# Altium schematic symbol library OV7670.SchLib: 1 symbol
Pins are listed as number, name and electrical type; pins without a type are passive.

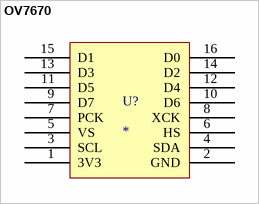
[diagram p0: symbol OV7670]

## OV7670
designator U?
footprint HDR2X8 (Connector; Header; 8x2 Position)
footprint HDR2X8H (Connector; Header; 8x2 Position; Right Angle)
pins: 1 3V3, 2 GND, 3 SCL, 4 SDA, 5 VS, 6 HS, 7 PCK, 8 XCK, 9 D7, 10 D6, 11 D5, 12 D4, 13 D3, 14 D2, 15 D1, 16 D0